# EAGLE library part ICSP_TARGET_10PIN_02X05_P2.54MM (library Connector_ICSP)
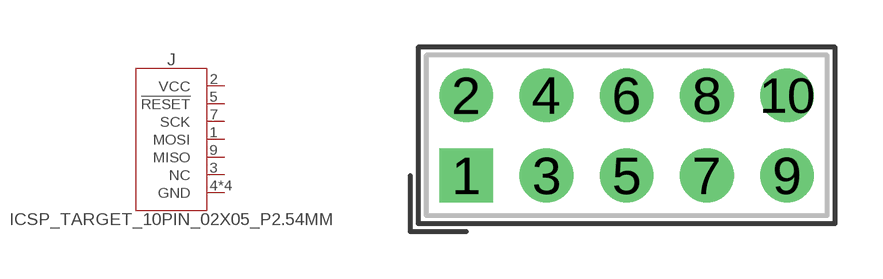
[diagram p3: symbol with the pads of 02X05_P2.54MM; footprint 02X05_P2.54MM]

Designator prefix J

## ICSP_TARGET_10PIN_02X05_P2.54MM  [02X05_P2.54MM]
1  MOSI  out
2  VCC  pas
3  NC  nc
4  GND  pas
5  !RESET  out
6  GND  pas
7  SCK  out
8  GND  pas
9  MISO  in
10  GND  pas

## Footprint 02X05_P2.54MM (pad centres in mm)
drill 1 pad 1.7 square: 1 -5.08,-1.27
drill 1 pad 1.7: 2 -5.08,1.27; 3 -2.54,-1.27; 4 -2.54,1.27; 5 0,-1.27; 6 0,1.27; 7 2.54,-1.27; 8 2.54,1.27; 9 5.08,-1.27; 10 5.08,1.27